# Altium schematic symbol library kmilo17pet-NSC_MiscPower.SchLib: 1552 symbols (part 18 of 43)
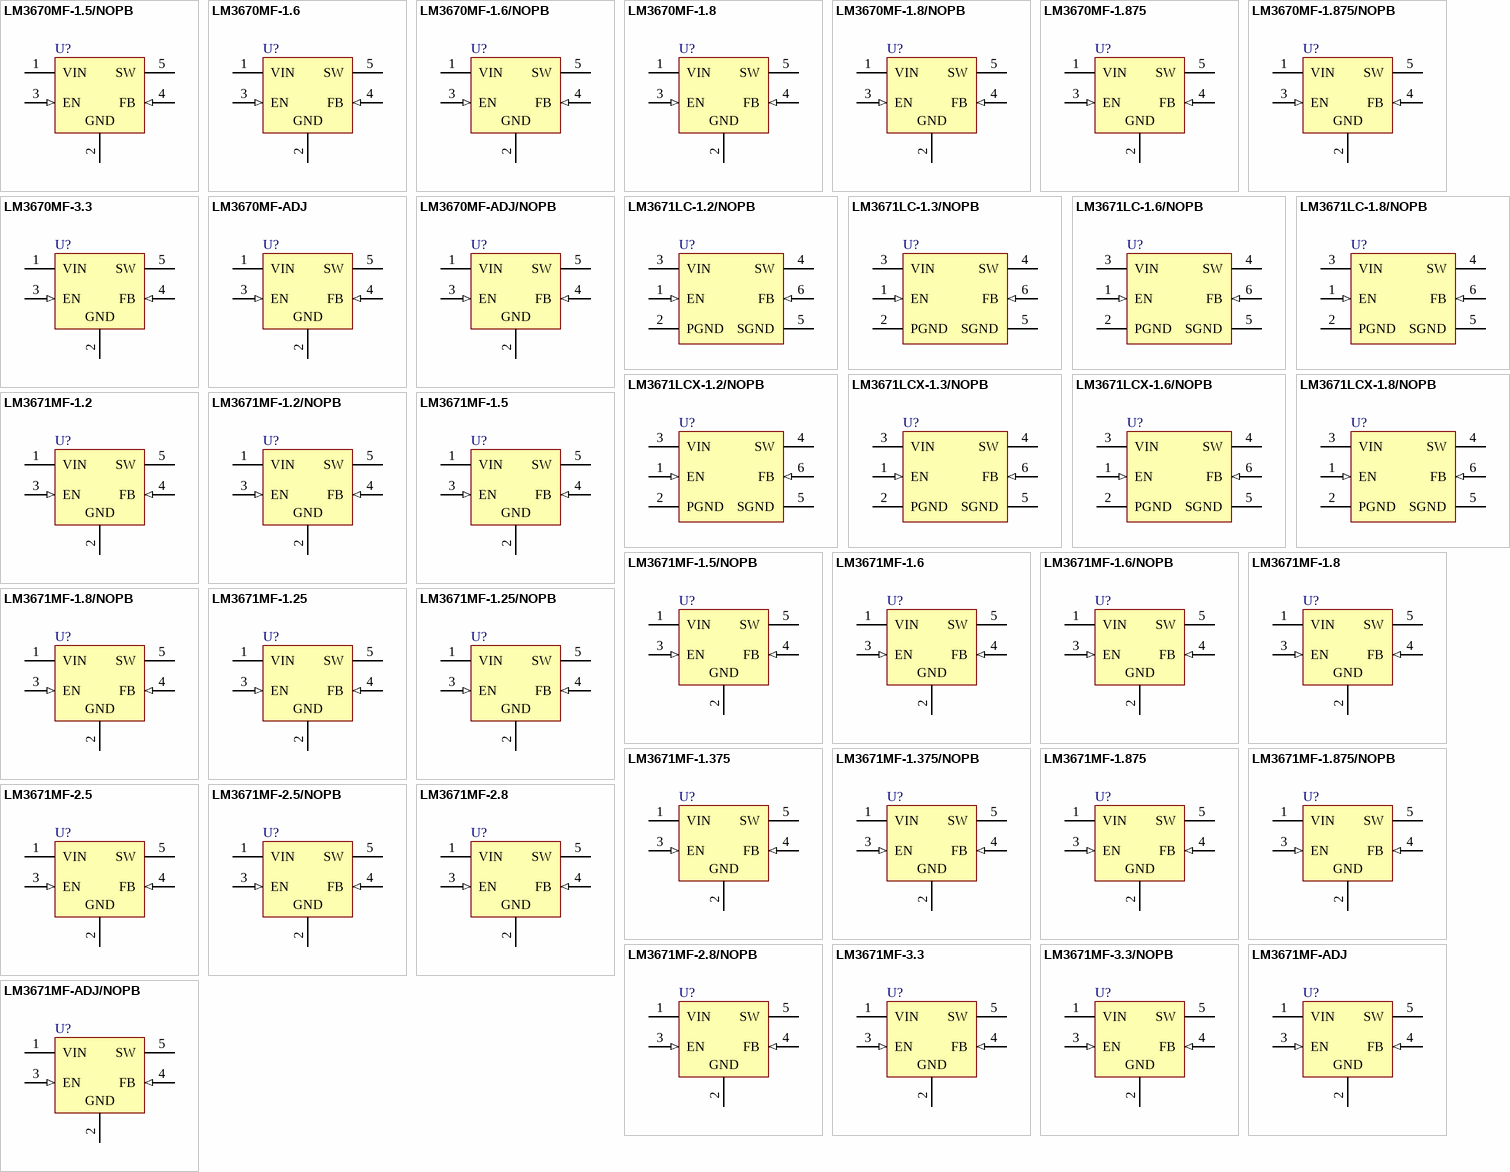
[diagram p74: symbols LM3670MF-1.5/NOPB to LM3671MF-ADJ/NOPB]

## LM3671MF-2.5
designator U?
2MHz, 600mA Step-Down DC-DC Converter, 5-pin SOT-23; PartNumber: LM3671MF-2.5; Manufacturer: National Semiconductor; PackageTopMarking: SJRB*XTT; PowerWise: Y; CompType: MiscPower; DatasheetVersion: Oct-2008; PackageVersion: revD, Aug-2008; PackageReference: MF05A; PackageDescription: Molded SOT-23, .115 x .063 x .040 in Body, 5 Lead, .0375 in Pitch; RoHS: N; PinCount: 5; High-Reliability: Y; ComponentLink1Description: Manufacturer URL; ComponentLink1URL: http://www.national.com/; ComponentLink2Description: LM3671 Datasheet; ComponentLink2URL: http://www.national.com/ds/LM/LM3671.pdf; ComponentLink3Description: LM3671 Web Page; ComponentLink3URL: http://www.national.com/pf/LM/LM3671.html; ComponentLink4Description: MF05A Package Page; ComponentLink4URL: http://www.national.com/packaging/folders/mf05a.html
footprint MF05A_N (SOT23, 5-Leads, Body 2.9x1.6mm, Pitch 0.95mm, Lead Span 2.8mm, IPC Medium Density)
footprint MF05A_L (SOT23, 5-Leads, Body 2.9x1.6mm, Pitch 0.95mm, Lead Span 2.8mm, IPC High Density)
footprint MF05A_M (SOT23, 5-Leads, Body 2.9x1.6mm, Pitch 0.95mm, Lead Span 2.8mm, IPC Low Density)
pins: 1 VIN (power), 2 GND (power), 3 EN (in), 4 FB (in), 5 SW (power)

## LM3671MF-2.5/NOPB
designator U?
2MHz, 600mA Step-Down DC-DC Converter, 5-pin SOT-23, Pb-Free; PartNumber: LM3671MF-2.5/NOPB; Manufacturer: National Semiconductor; PackageTopMarking: SJRB*XTT; PowerWise: Y; CompType: MiscPower; DatasheetVersion: Oct-2008; PackageVersion: revD, Aug-2008; PackageReference: MF05A; PackageDescription: Molded SOT-23, .115 x .063 x .040 in Body, 5 Lead, .0375 in Pitch; RoHS: Y; PinCount: 5; High-Reliability: Y; ComponentLink1Description: Manufacturer URL; ComponentLink1URL: http://www.national.com/; ComponentLink2Description: LM3671 Datasheet; ComponentLink2URL: http://www.national.com/ds/LM/LM3671.pdf; ComponentLink3Description: LM3671 Web Page; ComponentLink3URL: http://www.national.com/pf/LM/LM3671.html; ComponentLink4Description: MF05A Package Page; ComponentLink4URL: http://www.national.com/packaging/folders/mf05a.html
footprint MF05A_N (SOT23, 5-Leads, Body 2.9x1.6mm, Pitch 0.95mm, Lead Span 2.8mm, IPC Medium Density)
footprint MF05A_L (SOT23, 5-Leads, Body 2.9x1.6mm, Pitch 0.95mm, Lead Span 2.8mm, IPC High Density)
footprint MF05A_M (SOT23, 5-Leads, Body 2.9x1.6mm, Pitch 0.95mm, Lead Span 2.8mm, IPC Low Density)
pins: 1 VIN (power), 2 GND (power), 3 EN (in), 4 FB (in), 5 SW (power)

## LM3671MF-2.8
designator U?
2MHz, 600mA Step-Down DC-DC Converter, 5-pin SOT-23; PartNumber: LM3671MF-2.8; Manufacturer: National Semiconductor; PackageTopMarking: SJSB*XTT; PowerWise: Y; CompType: MiscPower; DatasheetVersion: Oct-2008; PackageVersion: revD, Aug-2008; PackageReference: MF05A; PackageDescription: Molded SOT-23, .115 x .063 x .040 in Body, 5 Lead, .0375 in Pitch; RoHS: N; PinCount: 5; High-Reliability: Y; ComponentLink1Description: Manufacturer URL; ComponentLink1URL: http://www.national.com/; ComponentLink2Description: LM3671 Datasheet; ComponentLink2URL: http://www.national.com/ds/LM/LM3671.pdf; ComponentLink3Description: LM3671 Web Page; ComponentLink3URL: http://www.national.com/pf/LM/LM3671.html; ComponentLink4Description: MF05A Package Page; ComponentLink4URL: http://www.national.com/packaging/folders/mf05a.html
footprint MF05A_N (SOT23, 5-Leads, Body 2.9x1.6mm, Pitch 0.95mm, Lead Span 2.8mm, IPC Medium Density)
footprint MF05A_L (SOT23, 5-Leads, Body 2.9x1.6mm, Pitch 0.95mm, Lead Span 2.8mm, IPC High Density)
footprint MF05A_M (SOT23, 5-Leads, Body 2.9x1.6mm, Pitch 0.95mm, Lead Span 2.8mm, IPC Low Density)
pins: 1 VIN (power), 2 GND (power), 3 EN (in), 4 FB (in), 5 SW (power)

## LM3671MF-2.8/NOPB
designator U?
2MHz, 600mA Step-Down DC-DC Converter, 5-pin SOT-23, Pb-Free; PartNumber: LM3671MF-2.8/NOPB; Manufacturer: National Semiconductor; PackageTopMarking: SJSB*XTT; PowerWise: Y; CompType: MiscPower; DatasheetVersion: Oct-2008; PackageVersion: revD, Aug-2008; PackageReference: MF05A; PackageDescription: Molded SOT-23, .115 x .063 x .040 in Body, 5 Lead, .0375 in Pitch; RoHS: Y; PinCount: 5; High-Reliability: Y; ComponentLink1Description: Manufacturer URL; ComponentLink1URL: http://www.national.com/; ComponentLink2Description: LM3671 Datasheet; ComponentLink2URL: http://www.national.com/ds/LM/LM3671.pdf; ComponentLink3Description: LM3671 Web Page; ComponentLink3URL: http://www.national.com/pf/LM/LM3671.html; ComponentLink4Description: MF05A Package Page; ComponentLink4URL: http://www.national.com/packaging/folders/mf05a.html
footprint MF05A_N (SOT23, 5-Leads, Body 2.9x1.6mm, Pitch 0.95mm, Lead Span 2.8mm, IPC Medium Density)
footprint MF05A_L (SOT23, 5-Leads, Body 2.9x1.6mm, Pitch 0.95mm, Lead Span 2.8mm, IPC High Density)
footprint MF05A_M (SOT23, 5-Leads, Body 2.9x1.6mm, Pitch 0.95mm, Lead Span 2.8mm, IPC Low Density)
pins: 1 VIN (power), 2 GND (power), 3 EN (in), 4 FB (in), 5 SW (power)

## LM3671MF-3.3
designator U?
2MHz, 600mA Step-Down DC-DC Converter, 5-pin SOT-23; PartNumber: LM3671MF-3.3; Manufacturer: National Semiconductor; PackageTopMarking: SJEB*XTT; PowerWise: Y; CompType: MiscPower; DatasheetVersion: Oct-2008; PackageVersion: revD, Aug-2008; PackageReference: MF05A; PackageDescription: Molded SOT-23, .115 x .063 x .040 in Body, 5 Lead, .0375 in Pitch; RoHS: N; PinCount: 5; High-Reliability: Y; ComponentLink1Description: Manufacturer URL; ComponentLink1URL: http://www.national.com/; ComponentLink2Description: LM3671 Datasheet; ComponentLink2URL: http://www.national.com/ds/LM/LM3671.pdf; ComponentLink3Description: LM3671 Web Page; ComponentLink3URL: http://www.national.com/pf/LM/LM3671.html; ComponentLink4Description: MF05A Package Page; ComponentLink4URL: http://www.national.com/packaging/folders/mf05a.html
footprint MF05A_N (SOT23, 5-Leads, Body 2.9x1.6mm, Pitch 0.95mm, Lead Span 2.8mm, IPC Medium Density)
footprint MF05A_L (SOT23, 5-Leads, Body 2.9x1.6mm, Pitch 0.95mm, Lead Span 2.8mm, IPC High Density)
footprint MF05A_M (SOT23, 5-Leads, Body 2.9x1.6mm, Pitch 0.95mm, Lead Span 2.8mm, IPC Low Density)
pins: 1 VIN (power), 2 GND (power), 3 EN (in), 4 FB (in), 5 SW (power)

## LM3671MF-3.3/NOPB
designator U?
2MHz, 600mA Step-Down DC-DC Converter, 5-pin SOT-23, Pb-Free; PartNumber: LM3671MF-3.3/NOPB; Manufacturer: National Semiconductor; PackageTopMarking: SJEB*XTT; PowerWise: Y; CompType: MiscPower; DatasheetVersion: Oct-2008; PackageVersion: revD, Aug-2008; PackageReference: MF05A; PackageDescription: Molded SOT-23, .115 x .063 x .040 in Body, 5 Lead, .0375 in Pitch; RoHS: Y; PinCount: 5; High-Reliability: Y; ComponentLink1Description: Manufacturer URL; ComponentLink1URL: http://www.national.com/; ComponentLink2Description: LM3671 Datasheet; ComponentLink2URL: http://www.national.com/ds/LM/LM3671.pdf; ComponentLink3Description: LM3671 Web Page; ComponentLink3URL: http://www.national.com/pf/LM/LM3671.html; ComponentLink4Description: MF05A Package Page; ComponentLink4URL: http://www.national.com/packaging/folders/mf05a.html
footprint MF05A_N (SOT23, 5-Leads, Body 2.9x1.6mm, Pitch 0.95mm, Lead Span 2.8mm, IPC Medium Density)
footprint MF05A_L (SOT23, 5-Leads, Body 2.9x1.6mm, Pitch 0.95mm, Lead Span 2.8mm, IPC High Density)
footprint MF05A_M (SOT23, 5-Leads, Body 2.9x1.6mm, Pitch 0.95mm, Lead Span 2.8mm, IPC Low Density)
pins: 1 VIN (power), 2 GND (power), 3 EN (in), 4 FB (in), 5 SW (power)

## LM3671MF-ADJ
designator U?
2MHz, 600mA Step-Down DC-DC Converter, 5-pin SOT-23; PartNumber: LM3671MF-ADJ; Manufacturer: National Semiconductor; PackageTopMarking: SBTB*XTT; PowerWise: Y; CompType: MiscPower; DatasheetVersion: Oct-2008; PackageVersion: revD, Aug-2008; PackageReference: MF05A; PackageDescription: Molded SOT-23, .115 x .063 x .040 in Body, 5 Lead, .0375 in Pitch; RoHS: N; PinCount: 5; High-Reliability: Y; ComponentLink1Description: Manufacturer URL; ComponentLink1URL: http://www.national.com/; ComponentLink2Description: LM3671 Datasheet; ComponentLink2URL: http://www.national.com/ds/LM/LM3671.pdf; ComponentLink3Description: LM3671 Web Page; ComponentLink3URL: http://www.national.com/pf/LM/LM3671.html; ComponentLink4Description: MF05A Package Page; ComponentLink4URL: http://www.national.com/packaging/folders/mf05a.html
footprint MF05A_N (SOT23, 5-Leads, Body 2.9x1.6mm, Pitch 0.95mm, Lead Span 2.8mm, IPC Medium Density)
footprint MF05A_L (SOT23, 5-Leads, Body 2.9x1.6mm, Pitch 0.95mm, Lead Span 2.8mm, IPC High Density)
footprint MF05A_M (SOT23, 5-Leads, Body 2.9x1.6mm, Pitch 0.95mm, Lead Span 2.8mm, IPC Low Density)
pins: 1 VIN (power), 2 GND (power), 3 EN (in), 4 FB (in), 5 SW (power)

## LM3671MF-ADJ/NOPB
designator U?
2MHz, 600mA Step-Down DC-DC Converter, 5-pin SOT-23, Pb-Free; PartNumber: LM3671MF-ADJ/NOPB; Manufacturer: National Semiconductor; PackageTopMarking: SBTB*XTT; PowerWise: Y; CompType: MiscPower; DatasheetVersion: Oct-2008; PackageVersion: revD, Aug-2008; PackageReference: MF05A; PackageDescription: Molded SOT-23, .115 x .063 x .040 in Body, 5 Lead, .0375 in Pitch; RoHS: Y; PinCount: 5; High-Reliability: Y; ComponentLink1Description: Manufacturer URL; ComponentLink1URL: http://www.national.com/; ComponentLink2Description: LM3671 Datasheet; ComponentLink2URL: http://www.national.com/ds/LM/LM3671.pdf; ComponentLink3Description: LM3671 Web Page; ComponentLink3URL: http://www.national.com/pf/LM/LM3671.html; ComponentLink4Description: MF05A Package Page; ComponentLink4URL: http://www.national.com/packaging/folders/mf05a.html
footprint MF05A_N (SOT23, 5-Leads, Body 2.9x1.6mm, Pitch 0.95mm, Lead Span 2.8mm, IPC Medium Density)
footprint MF05A_L (SOT23, 5-Leads, Body 2.9x1.6mm, Pitch 0.95mm, Lead Span 2.8mm, IPC High Density)
footprint MF05A_M (SOT23, 5-Leads, Body 2.9x1.6mm, Pitch 0.95mm, Lead Span 2.8mm, IPC Low Density)
pins: 1 VIN (power), 2 GND (power), 3 EN (in), 4 FB (in), 5 SW (power)

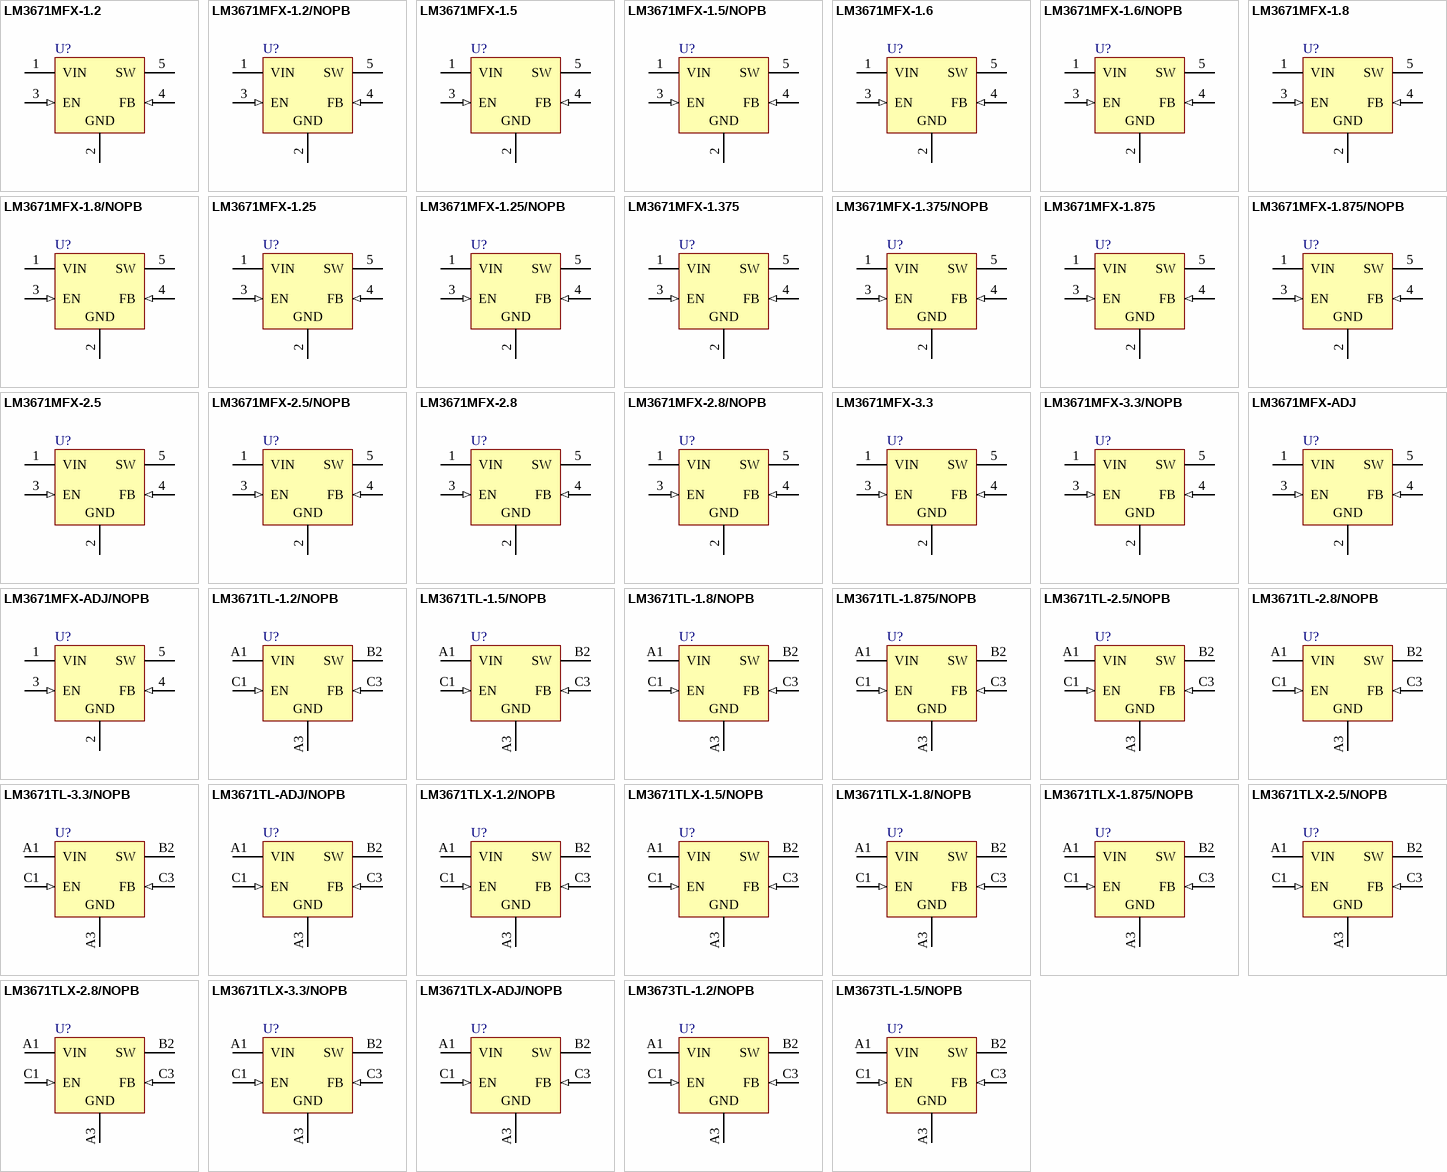
[diagram p20: symbols LM3671MFX-1.2 to LM3673TL-1.5/NOPB]

## LM3671MFX-1.2
designator U?
2MHz, 600mA Step-Down DC-DC Converter, 5-pin SOT-23; PartNumber: LM3671MFX-1.2; Manufacturer: National Semiconductor; PackageTopMarking: SBPB*XTT; PowerWise: Y; CompType: MiscPower; DatasheetVersion: Nov-2007; PackageVersion: revD, Aug-2008; PackageReference: MF05A; PackageDescription: Molded SOT-23, .115 x .063 x .040 in Body, 5 Lead, .0375 in Pitch; RoHS: N; PinCount: 5; High-Reliability: Y; ComponentLink1Description: Manufacturer URL; ComponentLink1URL: http://www.national.com/; ComponentLink2Description: LM3671 Datasheet; ComponentLink2URL: http://www.national.com/ds/LM/LM3671.pdf; ComponentLink3Description: LM3671 Web Page; ComponentLink3URL: http://www.national.com/pf/LM/LM3671.html; ComponentLink4Description: MF05A Package Page; ComponentLink4URL: http://www.national.com/packaging/folders/mf05a.html
footprint MF05A_N (SOT23, 5-Leads, Body 2.9x1.6mm, Pitch 0.95mm, Lead Span 2.8mm, IPC Medium Density)
footprint MF05A_L (SOT23, 5-Leads, Body 2.9x1.6mm, Pitch 0.95mm, Lead Span 2.8mm, IPC High Density)
footprint MF05A_M (SOT23, 5-Leads, Body 2.9x1.6mm, Pitch 0.95mm, Lead Span 2.8mm, IPC Low Density)
pins: 1 VIN (power), 2 GND (power), 3 EN (in), 4 FB (in), 5 SW (power)

## LM3671MFX-1.2/NOPB
designator U?
2MHz, 600mA Step-Down DC-DC Converter, 5-pin SOT-23, Pb-Free; PartNumber: LM3671MFX-1.2/NOPB; Manufacturer: National Semiconductor; PackageTopMarking: SBPB*XTT; PowerWise: Y; CompType: MiscPower; DatasheetVersion: Nov-2007; PackageVersion: revD, Aug-2008; PackageReference: MF05A; PackageDescription: Molded SOT-23, .115 x .063 x .040 in Body, 5 Lead, .0375 in Pitch; RoHS: Y; PinCount: 5; High-Reliability: Y; ComponentLink1Description: Manufacturer URL; ComponentLink1URL: http://www.national.com/; ComponentLink2Description: LM3671 Datasheet; ComponentLink2URL: http://www.national.com/ds/LM/LM3671.pdf; ComponentLink3Description: LM3671 Web Page; ComponentLink3URL: http://www.national.com/pf/LM/LM3671.html; ComponentLink4Description: MF05A Package Page; ComponentLink4URL: http://www.national.com/packaging/folders/mf05a.html
footprint MF05A_N (SOT23, 5-Leads, Body 2.9x1.6mm, Pitch 0.95mm, Lead Span 2.8mm, IPC Medium Density)
footprint MF05A_L (SOT23, 5-Leads, Body 2.9x1.6mm, Pitch 0.95mm, Lead Span 2.8mm, IPC High Density)
footprint MF05A_M (SOT23, 5-Leads, Body 2.9x1.6mm, Pitch 0.95mm, Lead Span 2.8mm, IPC Low Density)
pins: 1 VIN (power), 2 GND (power), 3 EN (in), 4 FB (in), 5 SW (power)

## LM3671MFX-1.5
designator U?
2MHz, 600mA Step-Down DC-DC Converter, 5-pin SOT-23; PartNumber: LM3671MFX-1.5; Manufacturer: National Semiconductor; PackageTopMarking: SBRB*XTT; PowerWise: Y; CompType: MiscPower; DatasheetVersion: Nov-2007; PackageVersion: revD, Aug-2008; PackageReference: MF05A; PackageDescription: Molded SOT-23, .115 x .063 x .040 in Body, 5 Lead, .0375 in Pitch; RoHS: N; PinCount: 5; High-Reliability: Y; ComponentLink1Description: Manufacturer URL; ComponentLink1URL: http://www.national.com/; ComponentLink2Description: LM3671 Datasheet; ComponentLink2URL: http://www.national.com/ds/LM/LM3671.pdf; ComponentLink3Description: LM3671 Web Page; ComponentLink3URL: http://www.national.com/pf/LM/LM3671.html; ComponentLink4Description: MF05A Package Page; ComponentLink4URL: http://www.national.com/packaging/folders/mf05a.html
footprint MF05A_N (SOT23, 5-Leads, Body 2.9x1.6mm, Pitch 0.95mm, Lead Span 2.8mm, IPC Medium Density)
footprint MF05A_L (SOT23, 5-Leads, Body 2.9x1.6mm, Pitch 0.95mm, Lead Span 2.8mm, IPC High Density)
footprint MF05A_M (SOT23, 5-Leads, Body 2.9x1.6mm, Pitch 0.95mm, Lead Span 2.8mm, IPC Low Density)
pins: 1 VIN (power), 2 GND (power), 3 EN (in), 4 FB (in), 5 SW (power)

## LM3671MFX-1.5/NOPB
designator U?
2MHz, 600mA Step-Down DC-DC Converter, 5-pin SOT-23, Pb-Free; PartNumber: LM3671MFX-1.5/NOPB; Manufacturer: National Semiconductor; PackageTopMarking: SBRB*XTT; PowerWise: Y; CompType: MiscPower; DatasheetVersion: Nov-2007; PackageVersion: revD, Aug-2008; PackageReference: MF05A; PackageDescription: Molded SOT-23, .115 x .063 x .040 in Body, 5 Lead, .0375 in Pitch; RoHS: Y; PinCount: 5; High-Reliability: Y; ComponentLink1Description: Manufacturer URL; ComponentLink1URL: http://www.national.com/; ComponentLink2Description: LM3671 Datasheet; ComponentLink2URL: http://www.national.com/ds/LM/LM3671.pdf; ComponentLink3Description: LM3671 Web Page; ComponentLink3URL: http://www.national.com/pf/LM/LM3671.html; ComponentLink4Description: MF05A Package Page; ComponentLink4URL: http://www.national.com/packaging/folders/mf05a.html
footprint MF05A_N (SOT23, 5-Leads, Body 2.9x1.6mm, Pitch 0.95mm, Lead Span 2.8mm, IPC Medium Density)
footprint MF05A_L (SOT23, 5-Leads, Body 2.9x1.6mm, Pitch 0.95mm, Lead Span 2.8mm, IPC High Density)
footprint MF05A_M (SOT23, 5-Leads, Body 2.9x1.6mm, Pitch 0.95mm, Lead Span 2.8mm, IPC Low Density)
pins: 1 VIN (power), 2 GND (power), 3 EN (in), 4 FB (in), 5 SW (power)

## LM3671MFX-1.6
designator U?
2MHz, 600mA Step-Down DC-DC Converter, 5-pin SOT-23; PartNumber: LM3671MFX-1.6; Manufacturer: National Semiconductor; PackageTopMarking: SDUB*XTT; PowerWise: Y; CompType: MiscPower; DatasheetVersion: Nov-2007; PackageVersion: revD, Aug-2008; PackageReference: MF05A; PackageDescription: Molded SOT-23, .115 x .063 x .040 in Body, 5 Lead, .0375 in Pitch; RoHS: N; PinCount: 5; High-Reliability: Y; ComponentLink1Description: Manufacturer URL; ComponentLink1URL: http://www.national.com/; ComponentLink2Description: LM3671 Datasheet; ComponentLink2URL: http://www.national.com/ds/LM/LM3671.pdf; ComponentLink3Description: LM3671 Web Page; ComponentLink3URL: http://www.national.com/pf/LM/LM3671.html; ComponentLink4Description: MF05A Package Page; ComponentLink4URL: http://www.national.com/packaging/folders/mf05a.html
footprint MF05A_N (SOT23, 5-Leads, Body 2.9x1.6mm, Pitch 0.95mm, Lead Span 2.8mm, IPC Medium Density)
footprint MF05A_L (SOT23, 5-Leads, Body 2.9x1.6mm, Pitch 0.95mm, Lead Span 2.8mm, IPC High Density)
footprint MF05A_M (SOT23, 5-Leads, Body 2.9x1.6mm, Pitch 0.95mm, Lead Span 2.8mm, IPC Low Density)
pins: 1 VIN (power), 2 GND (power), 3 EN (in), 4 FB (in), 5 SW (power)

## LM3671MFX-1.6/NOPB
designator U?
2MHz, 600mA Step-Down DC-DC Converter, 5-pin SOT-23, Pb-Free; PartNumber: LM3671MFX-1.6/NOPB; Manufacturer: National Semiconductor; PackageTopMarking: SDUB*XTT; PowerWise: Y; CompType: MiscPower; DatasheetVersion: Nov-2007; PackageVersion: revD, Aug-2008; PackageReference: MF05A; PackageDescription: Molded SOT-23, .115 x .063 x .040 in Body, 5 Lead, .0375 in Pitch; RoHS: Y; PinCount: 5; High-Reliability: Y; ComponentLink1Description: Manufacturer URL; ComponentLink1URL: http://www.national.com/; ComponentLink2Description: LM3671 Datasheet; ComponentLink2URL: http://www.national.com/ds/LM/LM3671.pdf; ComponentLink3Description: LM3671 Web Page; ComponentLink3URL: http://www.national.com/pf/LM/LM3671.html; ComponentLink4Description: MF05A Package Page; ComponentLink4URL: http://www.national.com/packaging/folders/mf05a.html
footprint MF05A_N (SOT23, 5-Leads, Body 2.9x1.6mm, Pitch 0.95mm, Lead Span 2.8mm, IPC Medium Density)
footprint MF05A_L (SOT23, 5-Leads, Body 2.9x1.6mm, Pitch 0.95mm, Lead Span 2.8mm, IPC High Density)
footprint MF05A_M (SOT23, 5-Leads, Body 2.9x1.6mm, Pitch 0.95mm, Lead Span 2.8mm, IPC Low Density)
pins: 1 VIN (power), 2 GND (power), 3 EN (in), 4 FB (in), 5 SW (power)

## LM3671MFX-1.8
designator U?
2MHz, 600mA Step-Down DC-DC Converter, 5-pin SOT-23; PartNumber: LM3671MFX-1.8; Manufacturer: National Semiconductor; PackageTopMarking: SBSB*XTT; PowerWise: Y; CompType: MiscPower; DatasheetVersion: Nov-2007; PackageVersion: revD, Aug-2008; PackageReference: MF05A; PackageDescription: Molded SOT-23, .115 x .063 x .040 in Body, 5 Lead, .0375 in Pitch; RoHS: N; PinCount: 5; High-Reliability: Y; ComponentLink1Description: Manufacturer URL; ComponentLink1URL: http://www.national.com/; ComponentLink2Description: LM3671 Datasheet; ComponentLink2URL: http://www.national.com/ds/LM/LM3671.pdf; ComponentLink3Description: LM3671 Web Page; ComponentLink3URL: http://www.national.com/pf/LM/LM3671.html; ComponentLink4Description: MF05A Package Page; ComponentLink4URL: http://www.national.com/packaging/folders/mf05a.html
footprint MF05A_N (SOT23, 5-Leads, Body 2.9x1.6mm, Pitch 0.95mm, Lead Span 2.8mm, IPC Medium Density)
footprint MF05A_L (SOT23, 5-Leads, Body 2.9x1.6mm, Pitch 0.95mm, Lead Span 2.8mm, IPC High Density)
footprint MF05A_M (SOT23, 5-Leads, Body 2.9x1.6mm, Pitch 0.95mm, Lead Span 2.8mm, IPC Low Density)
pins: 1 VIN (power), 2 GND (power), 3 EN (in), 4 FB (in), 5 SW (power)

## LM3671MFX-1.8/NOPB
designator U?
2MHz, 600mA Step-Down DC-DC Converter, 5-pin SOT-23, Pb-Free; PartNumber: LM3671MFX-1.8/NOPB; Manufacturer: National Semiconductor; PackageTopMarking: SBSB*XTT; PowerWise: Y; CompType: MiscPower; DatasheetVersion: Nov-2007; PackageVersion: revD, Aug-2008; PackageReference: MF05A; PackageDescription: Molded SOT-23, .115 x .063 x .040 in Body, 5 Lead, .0375 in Pitch; RoHS: Y; PinCount: 5; High-Reliability: Y; ComponentLink1Description: Manufacturer URL; ComponentLink1URL: http://www.national.com/; ComponentLink2Description: LM3671 Datasheet; ComponentLink2URL: http://www.national.com/ds/LM/LM3671.pdf; ComponentLink3Description: LM3671 Web Page; ComponentLink3URL: http://www.national.com/pf/LM/LM3671.html; ComponentLink4Description: MF05A Package Page; ComponentLink4URL: http://www.national.com/packaging/folders/mf05a.html
footprint MF05A_N (SOT23, 5-Leads, Body 2.9x1.6mm, Pitch 0.95mm, Lead Span 2.8mm, IPC Medium Density)
footprint MF05A_L (SOT23, 5-Leads, Body 2.9x1.6mm, Pitch 0.95mm, Lead Span 2.8mm, IPC High Density)
footprint MF05A_M (SOT23, 5-Leads, Body 2.9x1.6mm, Pitch 0.95mm, Lead Span 2.8mm, IPC Low Density)
pins: 1 VIN (power), 2 GND (power), 3 EN (in), 4 FB (in), 5 SW (power)

## LM3671MFX-1.25
designator U?
2MHz, 600mA Step-Down DC-DC Converter, 5-pin SOT-23; PartNumber: LM3671MFX-1.25; Manufacturer: National Semiconductor; PackageTopMarking: SDRB*XTT; PowerWise: Y; CompType: MiscPower; DatasheetVersion: Nov-2007; PackageVersion: revD, Aug-2008; PackageReference: MF05A; PackageDescription: Molded SOT-23, .115 x .063 x .040 in Body, 5 Lead, .0375 in Pitch; RoHS: N; PinCount: 5; High-Reliability: Y; ComponentLink1Description: Manufacturer URL; ComponentLink1URL: http://www.national.com/; ComponentLink2Description: LM3671 Datasheet; ComponentLink2URL: http://www.national.com/ds/LM/LM3671.pdf; ComponentLink3Description: LM3671 Web Page; ComponentLink3URL: http://www.national.com/pf/LM/LM3671.html; ComponentLink4Description: MF05A Package Page; ComponentLink4URL: http://www.national.com/packaging/folders/mf05a.html
footprint MF05A_N (SOT23, 5-Leads, Body 2.9x1.6mm, Pitch 0.95mm, Lead Span 2.8mm, IPC Medium Density)
footprint MF05A_L (SOT23, 5-Leads, Body 2.9x1.6mm, Pitch 0.95mm, Lead Span 2.8mm, IPC High Density)
footprint MF05A_M (SOT23, 5-Leads, Body 2.9x1.6mm, Pitch 0.95mm, Lead Span 2.8mm, IPC Low Density)
pins: 1 VIN (power), 2 GND (power), 3 EN (in), 4 FB (in), 5 SW (power)

## LM3671MFX-1.25/NOPB
designator U?
2MHz, 600mA Step-Down DC-DC Converter, 5-pin SOT-23, Pb-Free; PartNumber: LM3671MFX-1.25/NOPB; Manufacturer: National Semiconductor; PackageTopMarking: SDRB*XTT; PowerWise: Y; CompType: MiscPower; DatasheetVersion: Nov-2007; PackageVersion: revD, Aug-2008; PackageReference: MF05A; PackageDescription: Molded SOT-23, .115 x .063 x .040 in Body, 5 Lead, .0375 in Pitch; RoHS: Y; PinCount: 5; High-Reliability: Y; ComponentLink1Description: Manufacturer URL; ComponentLink1URL: http://www.national.com/; ComponentLink2Description: LM3671 Datasheet; ComponentLink2URL: http://www.national.com/ds/LM/LM3671.pdf; ComponentLink3Description: LM3671 Web Page; ComponentLink3URL: http://www.national.com/pf/LM/LM3671.html; ComponentLink4Description: MF05A Package Page; ComponentLink4URL: http://www.national.com/packaging/folders/mf05a.html
footprint MF05A_N (SOT23, 5-Leads, Body 2.9x1.6mm, Pitch 0.95mm, Lead Span 2.8mm, IPC Medium Density)
footprint MF05A_L (SOT23, 5-Leads, Body 2.9x1.6mm, Pitch 0.95mm, Lead Span 2.8mm, IPC High Density)
footprint MF05A_M (SOT23, 5-Leads, Body 2.9x1.6mm, Pitch 0.95mm, Lead Span 2.8mm, IPC Low Density)
pins: 1 VIN (power), 2 GND (power), 3 EN (in), 4 FB (in), 5 SW (power)

## LM3671MFX-1.375
designator U?
2MHz, 600mA Step-Down DC-DC Converter, 5-pin SOT-23; PartNumber: LM3671MFX-1.375; Manufacturer: National Semiconductor; PackageTopMarking: SEDB*XTT; PowerWise: Y; CompType: MiscPower; DatasheetVersion: Nov-2007; PackageVersion: revD, Aug-2008; PackageReference: MF05A; PackageDescription: Molded SOT-23, .115 x .063 x .040 in Body, 5 Lead, .0375 in Pitch; RoHS: N; PinCount: 5; High-Reliability: Y; ComponentLink1Description: Manufacturer URL; ComponentLink1URL: http://www.national.com/; ComponentLink2Description: LM3671 Datasheet; ComponentLink2URL: http://www.national.com/ds/LM/LM3671.pdf; ComponentLink3Description: LM3671 Web Page; ComponentLink3URL: http://www.national.com/pf/LM/LM3671.html; ComponentLink4Description: MF05A Package Page; ComponentLink4URL: http://www.national.com/packaging/folders/mf05a.html
footprint MF05A_N (SOT23, 5-Leads, Body 2.9x1.6mm, Pitch 0.95mm, Lead Span 2.8mm, IPC Medium Density)
footprint MF05A_L (SOT23, 5-Leads, Body 2.9x1.6mm, Pitch 0.95mm, Lead Span 2.8mm, IPC High Density)
footprint MF05A_M (SOT23, 5-Leads, Body 2.9x1.6mm, Pitch 0.95mm, Lead Span 2.8mm, IPC Low Density)
pins: 1 VIN (power), 2 GND (power), 3 EN (in), 4 FB (in), 5 SW (power)

## LM3671MFX-1.375/NOPB
designator U?
2MHz, 600mA Step-Down DC-DC Converter, 5-pin SOT-23, Pb-Free; PartNumber: LM3671MFX-1.375/NOPB; Manufacturer: National Semiconductor; PackageTopMarking: SEDB*XTT; PowerWise: Y; CompType: MiscPower; DatasheetVersion: Nov-2007; PackageVersion: revD, Aug-2008; PackageReference: MF05A; PackageDescription: Molded SOT-23, .115 x .063 x .040 in Body, 5 Lead, .0375 in Pitch; RoHS: Y; PinCount: 5; High-Reliability: Y; ComponentLink1Description: Manufacturer URL; ComponentLink1URL: http://www.national.com/; ComponentLink2Description: LM3671 Datasheet; ComponentLink2URL: http://www.national.com/ds/LM/LM3671.pdf; ComponentLink3Description: LM3671 Web Page; ComponentLink3URL: http://www.national.com/pf/LM/LM3671.html; ComponentLink4Description: MF05A Package Page; ComponentLink4URL: http://www.national.com/packaging/folders/mf05a.html
footprint MF05A_N (SOT23, 5-Leads, Body 2.9x1.6mm, Pitch 0.95mm, Lead Span 2.8mm, IPC Medium Density)
footprint MF05A_L (SOT23, 5-Leads, Body 2.9x1.6mm, Pitch 0.95mm, Lead Span 2.8mm, IPC High Density)
footprint MF05A_M (SOT23, 5-Leads, Body 2.9x1.6mm, Pitch 0.95mm, Lead Span 2.8mm, IPC Low Density)
pins: 1 VIN (power), 2 GND (power), 3 EN (in), 4 FB (in), 5 SW (power)

## LM3671MFX-1.875
designator U?
2MHz, 600mA Step-Down DC-DC Converter, 5-pin SOT-23; PartNumber: LM3671MFX-1.875; Manufacturer: National Semiconductor; PackageTopMarking: SDVB*XTT; PowerWise: Y; CompType: MiscPower; DatasheetVersion: Nov-2007; PackageVersion: revD, Aug-2008; PackageReference: MF05A; PackageDescription: Molded SOT-23, .115 x .063 x .040 in Body, 5 Lead, .0375 in Pitch; RoHS: N; PinCount: 5; High-Reliability: Y; ComponentLink1Description: Manufacturer URL; ComponentLink1URL: http://www.national.com/; ComponentLink2Description: LM3671 Datasheet; ComponentLink2URL: http://www.national.com/ds/LM/LM3671.pdf; ComponentLink3Description: LM3671 Web Page; ComponentLink3URL: http://www.national.com/pf/LM/LM3671.html; ComponentLink4Description: MF05A Package Page; ComponentLink4URL: http://www.national.com/packaging/folders/mf05a.html
footprint MF05A_N (SOT23, 5-Leads, Body 2.9x1.6mm, Pitch 0.95mm, Lead Span 2.8mm, IPC Medium Density)
footprint MF05A_L (SOT23, 5-Leads, Body 2.9x1.6mm, Pitch 0.95mm, Lead Span 2.8mm, IPC High Density)
footprint MF05A_M (SOT23, 5-Leads, Body 2.9x1.6mm, Pitch 0.95mm, Lead Span 2.8mm, IPC Low Density)
pins: 1 VIN (power), 2 GND (power), 3 EN (in), 4 FB (in), 5 SW (power)

## LM3671MFX-1.875/NOPB
designator U?
2MHz, 600mA Step-Down DC-DC Converter, 5-pin SOT-23, Pb-Free; PartNumber: LM3671MFX-1.875/NOPB; Manufacturer: National Semiconductor; PackageTopMarking: SDVB*XTT; PowerWise: Y; CompType: MiscPower; DatasheetVersion: Nov-2007; PackageVersion: revD, Aug-2008; PackageReference: MF05A; PackageDescription: Molded SOT-23, .115 x .063 x .040 in Body, 5 Lead, .0375 in Pitch; RoHS: Y; PinCount: 5; High-Reliability: Y; ComponentLink1Description: Manufacturer URL; ComponentLink1URL: http://www.national.com/; ComponentLink2Description: LM3671 Datasheet; ComponentLink2URL: http://www.national.com/ds/LM/LM3671.pdf; ComponentLink3Description: LM3671 Web Page; ComponentLink3URL: http://www.national.com/pf/LM/LM3671.html; ComponentLink4Description: MF05A Package Page; ComponentLink4URL: http://www.national.com/packaging/folders/mf05a.html
footprint MF05A_N (SOT23, 5-Leads, Body 2.9x1.6mm, Pitch 0.95mm, Lead Span 2.8mm, IPC Medium Density)
footprint MF05A_L (SOT23, 5-Leads, Body 2.9x1.6mm, Pitch 0.95mm, Lead Span 2.8mm, IPC High Density)
footprint MF05A_M (SOT23, 5-Leads, Body 2.9x1.6mm, Pitch 0.95mm, Lead Span 2.8mm, IPC Low Density)
pins: 1 VIN (power), 2 GND (power), 3 EN (in), 4 FB (in), 5 SW (power)

## LM3671MFX-2.5
designator U?
2MHz, 600mA Step-Down DC-DC Converter, 5-pin SOT-23; PartNumber: LM3671MFX-2.5; Manufacturer: National Semiconductor; PackageTopMarking: SJRB*XTT; PowerWise: Y; CompType: MiscPower; DatasheetVersion: Nov-2007; PackageVersion: revD, Aug-2008; PackageReference: MF05A; PackageDescription: Molded SOT-23, .115 x .063 x .040 in Body, 5 Lead, .0375 in Pitch; RoHS: N; PinCount: 5; High-Reliability: Y; ComponentLink1Description: Manufacturer URL; ComponentLink1URL: http://www.national.com/; ComponentLink2Description: LM3671 Datasheet; ComponentLink2URL: http://www.national.com/ds/LM/LM3671.pdf; ComponentLink3Description: LM3671 Web Page; ComponentLink3URL: http://www.national.com/pf/LM/LM3671.html; ComponentLink4Description: MF05A Package Page; ComponentLink4URL: http://www.national.com/packaging/folders/mf05a.html
footprint MF05A_N (SOT23, 5-Leads, Body 2.9x1.6mm, Pitch 0.95mm, Lead Span 2.8mm, IPC Medium Density)
footprint MF05A_L (SOT23, 5-Leads, Body 2.9x1.6mm, Pitch 0.95mm, Lead Span 2.8mm, IPC High Density)
footprint MF05A_M (SOT23, 5-Leads, Body 2.9x1.6mm, Pitch 0.95mm, Lead Span 2.8mm, IPC Low Density)
pins: 1 VIN (power), 2 GND (power), 3 EN (in), 4 FB (in), 5 SW (power)

## LM3671MFX-2.5/NOPB
designator U?
2MHz, 600mA Step-Down DC-DC Converter, 5-pin SOT-23, Pb-Free; PartNumber: LM3671MFX-2.5/NOPB; Manufacturer: National Semiconductor; PackageTopMarking: SJRB*XTT; PowerWise: Y; CompType: MiscPower; DatasheetVersion: Nov-2007; PackageVersion: revD, Aug-2008; PackageReference: MF05A; PackageDescription: Molded SOT-23, .115 x .063 x .040 in Body, 5 Lead, .0375 in Pitch; RoHS: Y; PinCount: 5; High-Reliability: Y; ComponentLink1Description: Manufacturer URL; ComponentLink1URL: http://www.national.com/; ComponentLink2Description: LM3671 Datasheet; ComponentLink2URL: http://www.national.com/ds/LM/LM3671.pdf; ComponentLink3Description: LM3671 Web Page; ComponentLink3URL: http://www.national.com/pf/LM/LM3671.html; ComponentLink4Description: MF05A Package Page; ComponentLink4URL: http://www.national.com/packaging/folders/mf05a.html
footprint MF05A_N (SOT23, 5-Leads, Body 2.9x1.6mm, Pitch 0.95mm, Lead Span 2.8mm, IPC Medium Density)
footprint MF05A_L (SOT23, 5-Leads, Body 2.9x1.6mm, Pitch 0.95mm, Lead Span 2.8mm, IPC High Density)
footprint MF05A_M (SOT23, 5-Leads, Body 2.9x1.6mm, Pitch 0.95mm, Lead Span 2.8mm, IPC Low Density)
pins: 1 VIN (power), 2 GND (power), 3 EN (in), 4 FB (in), 5 SW (power)

## LM3671MFX-2.8
designator U?
2MHz, 600mA Step-Down DC-DC Converter, 5-pin SOT-23; PartNumber: LM3671MFX-2.8; Manufacturer: National Semiconductor; PackageTopMarking: SJSB*XTT; PowerWise: Y; CompType: MiscPower; DatasheetVersion: Nov-2007; PackageVersion: revD, Aug-2008; PackageReference: MF05A; PackageDescription: Molded SOT-23, .115 x .063 x .040 in Body, 5 Lead, .0375 in Pitch; RoHS: N; PinCount: 5; High-Reliability: Y; ComponentLink1Description: Manufacturer URL; ComponentLink1URL: http://www.national.com/; ComponentLink2Description: LM3671 Datasheet; ComponentLink2URL: http://www.national.com/ds/LM/LM3671.pdf; ComponentLink3Description: LM3671 Web Page; ComponentLink3URL: http://www.national.com/pf/LM/LM3671.html; ComponentLink4Description: MF05A Package Page; ComponentLink4URL: http://www.national.com/packaging/folders/mf05a.html
footprint MF05A_N (SOT23, 5-Leads, Body 2.9x1.6mm, Pitch 0.95mm, Lead Span 2.8mm, IPC Medium Density)
footprint MF05A_L (SOT23, 5-Leads, Body 2.9x1.6mm, Pitch 0.95mm, Lead Span 2.8mm, IPC High Density)
footprint MF05A_M (SOT23, 5-Leads, Body 2.9x1.6mm, Pitch 0.95mm, Lead Span 2.8mm, IPC Low Density)
pins: 1 VIN (power), 2 GND (power), 3 EN (in), 4 FB (in), 5 SW (power)

## LM3671MFX-2.8/NOPB
designator U?
2MHz, 600mA Step-Down DC-DC Converter, 5-pin SOT-23, Pb-Free; PartNumber: LM3671MFX-2.8/NOPB; Manufacturer: National Semiconductor; PackageTopMarking: SJSB*XTT; PowerWise: Y; CompType: MiscPower; DatasheetVersion: Nov-2007; PackageVersion: revD, Aug-2008; PackageReference: MF05A; PackageDescription: Molded SOT-23, .115 x .063 x .040 in Body, 5 Lead, .0375 in Pitch; RoHS: Y; PinCount: 5; High-Reliability: Y; ComponentLink1Description: Manufacturer URL; ComponentLink1URL: http://www.national.com/; ComponentLink2Description: LM3671 Datasheet; ComponentLink2URL: http://www.national.com/ds/LM/LM3671.pdf; ComponentLink3Description: LM3671 Web Page; ComponentLink3URL: http://www.national.com/pf/LM/LM3671.html; ComponentLink4Description: MF05A Package Page; ComponentLink4URL: http://www.national.com/packaging/folders/mf05a.html
footprint MF05A_N (SOT23, 5-Leads, Body 2.9x1.6mm, Pitch 0.95mm, Lead Span 2.8mm, IPC Medium Density)
footprint MF05A_L (SOT23, 5-Leads, Body 2.9x1.6mm, Pitch 0.95mm, Lead Span 2.8mm, IPC High Density)
footprint MF05A_M (SOT23, 5-Leads, Body 2.9x1.6mm, Pitch 0.95mm, Lead Span 2.8mm, IPC Low Density)
pins: 1 VIN (power), 2 GND (power), 3 EN (in), 4 FB (in), 5 SW (power)

## LM3671MFX-3.3
designator U?
2MHz, 600mA Step-Down DC-DC Converter, 5-pin SOT-23; PartNumber: LM3671MFX-3.3; Manufacturer: National Semiconductor; PackageTopMarking: SJEB*XTT; PowerWise: Y; CompType: MiscPower; DatasheetVersion: Nov-2007; PackageVersion: revD, Aug-2008; PackageReference: MF05A; PackageDescription: Molded SOT-23, .115 x .063 x .040 in Body, 5 Lead, .0375 in Pitch; RoHS: N; PinCount: 5; High-Reliability: Y; ComponentLink1Description: Manufacturer URL; ComponentLink1URL: http://www.national.com/; ComponentLink2Description: LM3671 Datasheet; ComponentLink2URL: http://www.national.com/ds/LM/LM3671.pdf; ComponentLink3Description: LM3671 Web Page; ComponentLink3URL: http://www.national.com/pf/LM/LM3671.html; ComponentLink4Description: MF05A Package Page; ComponentLink4URL: http://www.national.com/packaging/folders/mf05a.html
footprint MF05A_N (SOT23, 5-Leads, Body 2.9x1.6mm, Pitch 0.95mm, Lead Span 2.8mm, IPC Medium Density)
footprint MF05A_L (SOT23, 5-Leads, Body 2.9x1.6mm, Pitch 0.95mm, Lead Span 2.8mm, IPC High Density)
footprint MF05A_M (SOT23, 5-Leads, Body 2.9x1.6mm, Pitch 0.95mm, Lead Span 2.8mm, IPC Low Density)
pins: 1 VIN (power), 2 GND (power), 3 EN (in), 4 FB (in), 5 SW (power)

## LM3671MFX-3.3/NOPB
designator U?
2MHz, 600mA Step-Down DC-DC Converter, 5-pin SOT-23, Pb-Free; PartNumber: LM3671MFX-3.3/NOPB; Manufacturer: National Semiconductor; PackageTopMarking: SJEB*XTT; PowerWise: Y; CompType: MiscPower; DatasheetVersion: Nov-2007; PackageVersion: revD, Aug-2008; PackageReference: MF05A; PackageDescription: Molded SOT-23, .115 x .063 x .040 in Body, 5 Lead, .0375 in Pitch; RoHS: Y; PinCount: 5; High-Reliability: Y; ComponentLink1Description: Manufacturer URL; ComponentLink1URL: http://www.national.com/; ComponentLink2Description: LM3671 Datasheet; ComponentLink2URL: http://www.national.com/ds/LM/LM3671.pdf; ComponentLink3Description: LM3671 Web Page; ComponentLink3URL: http://www.national.com/pf/LM/LM3671.html; ComponentLink4Description: MF05A Package Page; ComponentLink4URL: http://www.national.com/packaging/folders/mf05a.html
footprint MF05A_N (SOT23, 5-Leads, Body 2.9x1.6mm, Pitch 0.95mm, Lead Span 2.8mm, IPC Medium Density)
footprint MF05A_L (SOT23, 5-Leads, Body 2.9x1.6mm, Pitch 0.95mm, Lead Span 2.8mm, IPC High Density)
footprint MF05A_M (SOT23, 5-Leads, Body 2.9x1.6mm, Pitch 0.95mm, Lead Span 2.8mm, IPC Low Density)
pins: 1 VIN (power), 2 GND (power), 3 EN (in), 4 FB (in), 5 SW (power)

## LM3671MFX-ADJ
designator U?
2MHz, 600mA Step-Down DC-DC Converter, 5-pin SOT-23; PartNumber: LM3671MFX-ADJ; Manufacturer: National Semiconductor; PackageTopMarking: SBTB*XTT; PowerWise: Y; CompType: MiscPower; DatasheetVersion: Nov-2007; PackageVersion: revD, Aug-2008; PackageReference: MF05A; PackageDescription: Molded SOT-23, .115 x .063 x .040 in Body, 5 Lead, .0375 in Pitch; RoHS: N; PinCount: 5; High-Reliability: Y; ComponentLink1Description: Manufacturer URL; ComponentLink1URL: http://www.national.com/; ComponentLink2Description: LM3671 Datasheet; ComponentLink2URL: http://www.national.com/ds/LM/LM3671.pdf; ComponentLink3Description: LM3671 Web Page; ComponentLink3URL: http://www.national.com/pf/LM/LM3671.html; ComponentLink4Description: MF05A Package Page; ComponentLink4URL: http://www.national.com/packaging/folders/mf05a.html
footprint MF05A_N (SOT23, 5-Leads, Body 2.9x1.6mm, Pitch 0.95mm, Lead Span 2.8mm, IPC Medium Density)
footprint MF05A_L (SOT23, 5-Leads, Body 2.9x1.6mm, Pitch 0.95mm, Lead Span 2.8mm, IPC High Density)
footprint MF05A_M (SOT23, 5-Leads, Body 2.9x1.6mm, Pitch 0.95mm, Lead Span 2.8mm, IPC Low Density)
pins: 1 VIN (power), 2 GND (power), 3 EN (in), 4 FB (in), 5 SW (power)

## LM3671MFX-ADJ/NOPB
designator U?
2MHz, 600mA Step-Down DC-DC Converter, 5-pin SOT-23, Pb-Free; PartNumber: LM3671MFX-ADJ/NOPB; Manufacturer: National Semiconductor; PackageTopMarking: SBTB*XTT; PowerWise: Y; CompType: MiscPower; DatasheetVersion: Nov-2007; PackageVersion: revD, Aug-2008; PackageReference: MF05A; PackageDescription: Molded SOT-23, .115 x .063 x .040 in Body, 5 Lead, .0375 in Pitch; RoHS: Y; PinCount: 5; High-Reliability: Y; ComponentLink1Description: Manufacturer URL; ComponentLink1URL: http://www.national.com/; ComponentLink2Description: LM3671 Datasheet; ComponentLink2URL: http://www.national.com/ds/LM/LM3671.pdf; ComponentLink3Description: LM3671 Web Page; ComponentLink3URL: http://www.national.com/pf/LM/LM3671.html; ComponentLink4Description: MF05A Package Page; ComponentLink4URL: http://www.national.com/packaging/folders/mf05a.html
footprint MF05A_N (SOT23, 5-Leads, Body 2.9x1.6mm, Pitch 0.95mm, Lead Span 2.8mm, IPC Medium Density)
footprint MF05A_L (SOT23, 5-Leads, Body 2.9x1.6mm, Pitch 0.95mm, Lead Span 2.8mm, IPC High Density)
footprint MF05A_M (SOT23, 5-Leads, Body 2.9x1.6mm, Pitch 0.95mm, Lead Span 2.8mm, IPC Low Density)
pins: 1 VIN (power), 2 GND (power), 3 EN (in), 4 FB (in), 5 SW (power)

## LM3671TL-1.2/NOPB
designator U?
2MHz, 600mA Step-Down DC-DC Converter, 5-pin Micro SMD, Pb-Free; PartNumber: LM3671TL-1.2/NOPB; Manufacturer: National Semiconductor; PackageTopMarking: XV*I C; PowerWise: Y; CompType: MiscPower; DatasheetVersion: Oct-2008; PackageVersion: revC, Feb-2005; PackageReference: TLA05CBA; PackageDescription: Thin Micro SMD, 5 Bump (Large), 0.5mm Pitch; RoHS: Y; PinCount: 5; High-Reliability: Y; ComponentLink1Description: Manufacturer URL; ComponentLink1URL: http://www.national.com/; ComponentLink2Description: LM3671 Datasheet; ComponentLink2URL: http://www.national.com/ds/LM/LM3671.pdf; ComponentLink3Description: LM3671 Web Page; ComponentLink3URL: http://www.national.com/pf/LM/LM3671.html; ComponentLink4Description: TLA05CBA Package Page; ComponentLink4URL: http://www.national.com/packaging/folders/tla05cba.html
footprint TLA05CBA (Micro SMD, 5-Leads, Body 1.39x1.06mm, Pitch 0.5mm, NSC Recommended)
pins: A1 VIN (power), A3 GND (power), B2 SW (power), C1 EN (in), C3 FB (in)

## LM3671TL-1.5/NOPB
designator U?
2MHz, 600mA Step-Down DC-DC Converter, 5-pin Micro SMD, Pb-Free; PartNumber: LM3671TL-1.5/NOPB; Manufacturer: National Semiconductor; PackageTopMarking: XV*I D; PowerWise: Y; CompType: MiscPower; DatasheetVersion: Oct-2008; PackageVersion: revC, Feb-2005; PackageReference: TLA05CBA; PackageDescription: Thin Micro SMD, 5 Bump (Large), 0.5mm Pitch; RoHS: Y; PinCount: 5; High-Reliability: Y; ComponentLink1Description: Manufacturer URL; ComponentLink1URL: http://www.national.com/; ComponentLink2Description: LM3671 Datasheet; ComponentLink2URL: http://www.national.com/ds/LM/LM3671.pdf; ComponentLink3Description: LM3671 Web Page; ComponentLink3URL: http://www.national.com/pf/LM/LM3671.html; ComponentLink4Description: TLA05CBA Package Page; ComponentLink4URL: http://www.national.com/packaging/folders/tla05cba.html
footprint TLA05CBA (Micro SMD, 5-Leads, Body 1.39x1.06mm, Pitch 0.5mm, NSC Recommended)
pins: A1 VIN (power), A3 GND (power), B2 SW (power), C1 EN (in), C3 FB (in)

## LM3671TL-1.8/NOPB
designator U?
2MHz, 600mA Step-Down DC-DC Converter, 5-pin Micro SMD, Pb-Free; PartNumber: LM3671TL-1.8/NOPB; Manufacturer: National Semiconductor; PackageTopMarking: XV*I B; PowerWise: Y; CompType: MiscPower; DatasheetVersion: Oct-2008; PackageVersion: revC, Feb-2005; PackageReference: TLA05CBA; PackageDescription: Thin Micro SMD, 5 Bump (Large), 0.5mm Pitch; RoHS: Y; PinCount: 5; High-Reliability: Y; ComponentLink1Description: Manufacturer URL; ComponentLink1URL: http://www.national.com/; ComponentLink2Description: LM3671 Datasheet; ComponentLink2URL: http://www.national.com/ds/LM/LM3671.pdf; ComponentLink3Description: LM3671 Web Page; ComponentLink3URL: http://www.national.com/pf/LM/LM3671.html; ComponentLink4Description: TLA05CBA Package Page; ComponentLink4URL: http://www.national.com/packaging/folders/tla05cba.html
footprint TLA05CBA (Micro SMD, 5-Leads, Body 1.39x1.06mm, Pitch 0.5mm, NSC Recommended)
pins: A1 VIN (power), A3 GND (power), B2 SW (power), C1 EN (in), C3 FB (in)

## LM3671TL-1.875/NOPB
designator U?
2MHz, 600mA Step-Down DC-DC Converter, 5-pin Micro SMD, Pb-Free; PartNumber: LM3671TL-1.875/NOPB; Manufacturer: National Semiconductor; PackageTopMarking: XV*I S; PowerWise: Y; CompType: MiscPower; DatasheetVersion: Oct-2008; PackageVersion: revC, Feb-2005; PackageReference: TLA05CBA; PackageDescription: Thin Micro SMD, 5 Bump (Large), 0.5mm Pitch; RoHS: Y; PinCount: 5; High-Reliability: Y; ComponentLink1Description: Manufacturer URL; ComponentLink1URL: http://www.national.com/; ComponentLink2Description: LM3671 Datasheet; ComponentLink2URL: http://www.national.com/ds/LM/LM3671.pdf; ComponentLink3Description: LM3671 Web Page; ComponentLink3URL: http://www.national.com/pf/LM/LM3671.html; ComponentLink4Description: TLA05CBA Package Page; ComponentLink4URL: http://www.national.com/packaging/folders/tla05cba.html
footprint TLA05CBA (Micro SMD, 5-Leads, Body 1.39x1.06mm, Pitch 0.5mm, NSC Recommended)
pins: A1 VIN (power), A3 GND (power), B2 SW (power), C1 EN (in), C3 FB (in)

## LM3671TL-2.5/NOPB
designator U?
2MHz, 600mA Step-Down DC-DC Converter, 5-pin Micro SMD, Pb-Free; PartNumber: LM3671TL-2.5/NOPB; Manufacturer: National Semiconductor; PackageTopMarking: XV*I L; PowerWise: Y; CompType: MiscPower; DatasheetVersion: Oct-2008; PackageVersion: revC, Feb-2005; PackageReference: TLA05CBA; PackageDescription: Thin Micro SMD, 5 Bump (Large), 0.5mm Pitch; RoHS: Y; PinCount: 5; High-Reliability: Y; ComponentLink1Description: Manufacturer URL; ComponentLink1URL: http://www.national.com/; ComponentLink2Description: LM3671 Datasheet; ComponentLink2URL: http://www.national.com/ds/LM/LM3671.pdf; ComponentLink3Description: LM3671 Web Page; ComponentLink3URL: http://www.national.com/pf/LM/LM3671.html; ComponentLink4Description: TLA05CBA Package Page; ComponentLink4URL: http://www.national.com/packaging/folders/tla05cba.html
footprint TLA05CBA (Micro SMD, 5-Leads, Body 1.39x1.06mm, Pitch 0.5mm, NSC Recommended)
pins: A1 VIN (power), A3 GND (power), B2 SW (power), C1 EN (in), C3 FB (in)

## LM3671TL-2.8/NOPB
designator U?
2MHz, 600mA Step-Down DC-DC Converter, 5-pin Micro SMD, Pb-Free; PartNumber: LM3671TL-2.8/NOPB; Manufacturer: National Semiconductor; PackageTopMarking: XV*I K; PowerWise: Y; CompType: MiscPower; DatasheetVersion: Oct-2008; PackageVersion: revC, Feb-2005; PackageReference: TLA05CBA; PackageDescription: Thin Micro SMD, 5 Bump (Large), 0.5mm Pitch; RoHS: Y; PinCount: 5; High-Reliability: Y; ComponentLink1Description: Manufacturer URL; ComponentLink1URL: http://www.national.com/; ComponentLink2Description: LM3671 Datasheet; ComponentLink2URL: http://www.national.com/ds/LM/LM3671.pdf; ComponentLink3Description: LM3671 Web Page; ComponentLink3URL: http://www.national.com/pf/LM/LM3671.html; ComponentLink4Description: TLA05CBA Package Page; ComponentLink4URL: http://www.national.com/packaging/folders/tla05cba.html
footprint TLA05CBA (Micro SMD, 5-Leads, Body 1.39x1.06mm, Pitch 0.5mm, NSC Recommended)
pins: A1 VIN (power), A3 GND (power), B2 SW (power), C1 EN (in), C3 FB (in)

## LM3671TL-3.3/NOPB
designator U?
2MHz, 600mA Step-Down DC-DC Converter, 5-pin Micro SMD, Pb-Free; PartNumber: LM3671TL-3.3/NOPB; Manufacturer: National Semiconductor; PackageTopMarking: XV*I J; PowerWise: Y; CompType: MiscPower; DatasheetVersion: Oct-2008; PackageVersion: revC, Feb-2005; PackageReference: TLA05CBA; PackageDescription: Thin Micro SMD, 5 Bump (Large), 0.5mm Pitch; RoHS: Y; PinCount: 5; High-Reliability: Y; ComponentLink1Description: Manufacturer URL; ComponentLink1URL: http://www.national.com/; ComponentLink2Description: LM3671 Datasheet; ComponentLink2URL: http://www.national.com/ds/LM/LM3671.pdf; ComponentLink3Description: LM3671 Web Page; ComponentLink3URL: http://www.national.com/pf/LM/LM3671.html; ComponentLink4Description: TLA05CBA Package Page; ComponentLink4URL: http://www.national.com/packaging/folders/tla05cba.html
footprint TLA05CBA (Micro SMD, 5-Leads, Body 1.39x1.06mm, Pitch 0.5mm, NSC Recommended)
pins: A1 VIN (power), A3 GND (power), B2 SW (power), C1 EN (in), C3 FB (in)

## LM3671TL-ADJ/NOPB
designator U?
2MHz, 600mA Step-Down DC-DC Converter, 5-pin Micro SMD, Pb-Free; PartNumber: LM3671TL-ADJ/NOPB; Manufacturer: National Semiconductor; PackageTopMarking: XV*I E; PowerWise: Y; CompType: MiscPower; DatasheetVersion: Oct-2008; PackageVersion: revC, Feb-2005; PackageReference: TLA05CBA; PackageDescription: Thin Micro SMD, 5 Bump (Large), 0.5mm Pitch; RoHS: Y; PinCount: 5; High-Reliability: Y; ComponentLink1Description: Manufacturer URL; ComponentLink1URL: http://www.national.com/; ComponentLink2Description: LM3671 Datasheet; ComponentLink2URL: http://www.national.com/ds/LM/LM3671.pdf; ComponentLink3Description: LM3671 Web Page; ComponentLink3URL: http://www.national.com/pf/LM/LM3671.html; ComponentLink4Description: TLA05CBA Package Page; ComponentLink4URL: http://www.national.com/packaging/folders/tla05cba.html
footprint TLA05CBA (Micro SMD, 5-Leads, Body 1.39x1.06mm, Pitch 0.5mm, NSC Recommended)
pins: A1 VIN (power), A3 GND (power), B2 SW (power), C1 EN (in), C3 FB (in)

## LM3671TLX-1.2/NOPB
designator U?
2MHz, 600mA Step-Down DC-DC Converter, 5-pin Micro SMD, Pb-Free; PartNumber: LM3671TLX-1.2/NOPB; Manufacturer: National Semiconductor; PackageTopMarking: XV*I C; PowerWise: Y; CompType: MiscPower; DatasheetVersion: Nov-2007; PackageVersion: revC, Feb-2005; PackageReference: TLA05CBA; PackageDescription: Thin Micro SMD, 5 Bump (Large), 0.5mm Pitch; RoHS: Y; PinCount: 5; High-Reliability: Y; ComponentLink1Description: Manufacturer URL; ComponentLink1URL: http://www.national.com/; ComponentLink2Description: LM3671 Datasheet; ComponentLink2URL: http://www.national.com/ds/LM/LM3671.pdf; ComponentLink3Description: LM3671 Web Page; ComponentLink3URL: http://www.national.com/pf/LM/LM3671.html; ComponentLink4Description: TLA05CBA Package Page; ComponentLink4URL: http://www.national.com/packaging/folders/tla05cba.html
footprint TLA05CBA (Micro SMD, 5-Leads, Body 1.39x1.06mm, Pitch 0.5mm, NSC Recommended)
pins: A1 VIN (power), A3 GND (power), B2 SW (power), C1 EN (in), C3 FB (in)

## LM3671TLX-1.5/NOPB
designator U?
2MHz, 600mA Step-Down DC-DC Converter, 5-pin Micro SMD, Pb-Free; PartNumber: LM3671TLX-1.5/NOPB; Manufacturer: National Semiconductor; PackageTopMarking: XV*I D; PowerWise: Y; CompType: MiscPower; DatasheetVersion: Nov-2007; PackageVersion: revC, Feb-2005; PackageReference: TLA05CBA; PackageDescription: Thin Micro SMD, 5 Bump (Large), 0.5mm Pitch; RoHS: Y; PinCount: 5; High-Reliability: Y; ComponentLink1Description: Manufacturer URL; ComponentLink1URL: http://www.national.com/; ComponentLink2Description: LM3671 Datasheet; ComponentLink2URL: http://www.national.com/ds/LM/LM3671.pdf; ComponentLink3Description: LM3671 Web Page; ComponentLink3URL: http://www.national.com/pf/LM/LM3671.html; ComponentLink4Description: TLA05CBA Package Page; ComponentLink4URL: http://www.national.com/packaging/folders/tla05cba.html
footprint TLA05CBA (Micro SMD, 5-Leads, Body 1.39x1.06mm, Pitch 0.5mm, NSC Recommended)
pins: A1 VIN (power), A3 GND (power), B2 SW (power), C1 EN (in), C3 FB (in)

## LM3671TLX-1.8/NOPB
designator U?
2MHz, 600mA Step-Down DC-DC Converter, 5-pin Micro SMD, Pb-Free; PartNumber: LM3671TLX-1.8/NOPB; Manufacturer: National Semiconductor; PackageTopMarking: XV*I B; PowerWise: Y; CompType: MiscPower; DatasheetVersion: Nov-2007; PackageVersion: revC, Feb-2005; PackageReference: TLA05CBA; PackageDescription: Thin Micro SMD, 5 Bump (Large), 0.5mm Pitch; RoHS: Y; PinCount: 5; High-Reliability: Y; ComponentLink1Description: Manufacturer URL; ComponentLink1URL: http://www.national.com/; ComponentLink2Description: LM3671 Datasheet; ComponentLink2URL: http://www.national.com/ds/LM/LM3671.pdf; ComponentLink3Description: LM3671 Web Page; ComponentLink3URL: http://www.national.com/pf/LM/LM3671.html; ComponentLink4Description: TLA05CBA Package Page; ComponentLink4URL: http://www.national.com/packaging/folders/tla05cba.html
footprint TLA05CBA (Micro SMD, 5-Leads, Body 1.39x1.06mm, Pitch 0.5mm, NSC Recommended)
pins: A1 VIN (power), A3 GND (power), B2 SW (power), C1 EN (in), C3 FB (in)

## LM3671TLX-1.875/NOPB
designator U?
2MHz, 600mA Step-Down DC-DC Converter, 5-pin Micro SMD, Pb-Free; PartNumber: LM3671TLX-1.875/NOPB; Manufacturer: National Semiconductor; PackageTopMarking: XV*I S; PowerWise: Y; CompType: MiscPower; DatasheetVersion: Nov-2007; PackageVersion: revC, Feb-2005; PackageReference: TLA05CBA; PackageDescription: Thin Micro SMD, 5 Bump (Large), 0.5mm Pitch; RoHS: Y; PinCount: 5; High-Reliability: Y; ComponentLink1Description: Manufacturer URL; ComponentLink1URL: http://www.national.com/; ComponentLink2Description: LM3671 Datasheet; ComponentLink2URL: http://www.national.com/ds/LM/LM3671.pdf; ComponentLink3Description: LM3671 Web Page; ComponentLink3URL: http://www.national.com/pf/LM/LM3671.html; ComponentLink4Description: TLA05CBA Package Page; ComponentLink4URL: http://www.national.com/packaging/folders/tla05cba.html
footprint TLA05CBA (Micro SMD, 5-Leads, Body 1.39x1.06mm, Pitch 0.5mm, NSC Recommended)
pins: A1 VIN (power), A3 GND (power), B2 SW (power), C1 EN (in), C3 FB (in)